# EAGLE library part IC-CP2102N-A02-GQFN24R (library nRF9160-IC)
Check prices <https://snapeda.com/parts/CP2102N-A02-GQFN24R/Silicon%20Labs/view-part/?ref=eda>
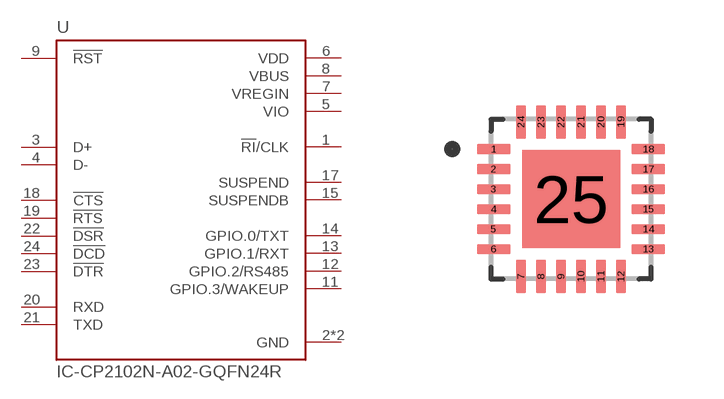
[diagram p0: symbol with the pads of QFN50P400X400X80-25N; footprint QFN50P400X400X80-25N]

Designator prefix U

## IC-CP2102N-A02-GQFN24R (DESC: USB Bridge, USB to UART USB 2.0 UART Interface 24-QFN (4x4); DIGIKEYPN: 336-5888-1-ND; MF: Silicon Labs; MPN: CP2102N-A02-GQFN24R; PROD_ID: IC-14020)  [QFN50P400X400X80-25N]
1  !RI!/CLK
2  GND  pwr
3  D+
4  D-
5  VIO  pwr
6  VDD  pwr
7  VREGIN  in
8  VBUS  in
9  !RST
11  GPIO.3/WAKEUP
12  GPIO.2/RS485
13  GPIO.1/RXT
14  GPIO.0/TXT
15  SUSPENDB  out
17  SUSPEND  out
18  !CTS  in
19  !RTS  out
20  RXD  in
21  TXD  out
22  !DSR  in
23  !DTR  out
24  !DCD  in
25  GND  pwr

## Footprint QFN50P400X400X80-25N (pad centres in mm)
smd 0.84 x 0.26: 1 -1.935,1.25; 2 -1.935,0.75; 3 -1.935,0.25; 4 -1.935,-0.25; 5 -1.935,-0.75; 6 -1.935,-1.25; 13 1.935,-1.25; 14 1.935,-0.75; 15 1.935,-0.25; 16 1.935,0.25; 17 1.935,0.75; 18 1.935,1.25
smd 0.26 x 0.84: 7 -1.25,-1.935; 8 -0.75,-1.935; 9 -0.25,-1.935; 10 0.25,-1.935; 11 0.75,-1.935; 12 1.25,-1.935; 19 1.25,1.935; 20 0.75,1.935; 21 0.25,1.935; 22 -0.25,1.935; 23 -0.75,1.935; 24 -1.25,1.935
smd 2.45 x 2.45: 25 0,0